# Altium footprint library XTAL_ECS120185PXTR.PcbLib: 1 footprints
Each footprint in its own frame and in the unit in brackets; x right, y up, seen from the top. Pads: shape width x height; smd on the part's side, far side on the other; paste and mask are expansions set on the pad; w line width, h text height; cw(c..) or ccw(c..) is an arc to the next point about the centre after c.
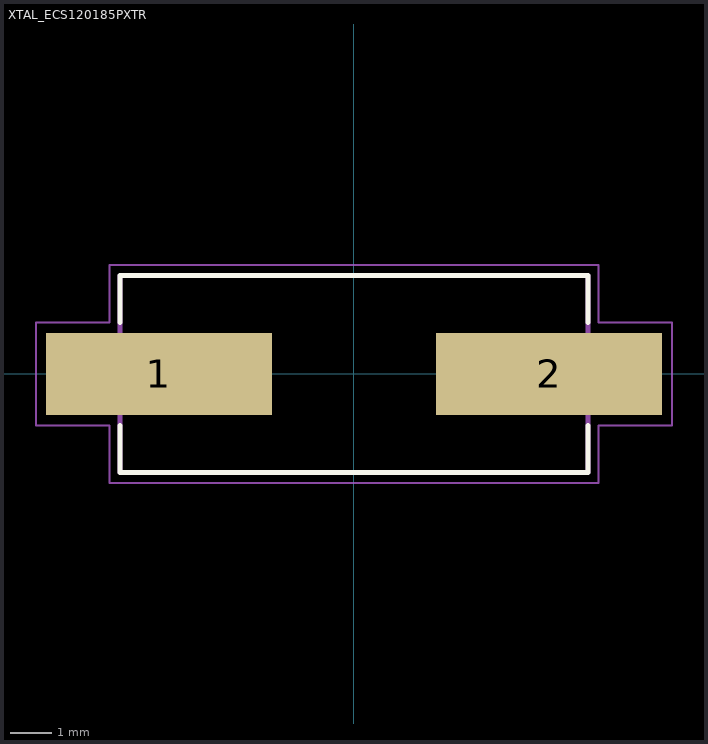
[diagram p0: the footprint, top view; thin cyan lines are the x and y axes]

## XTAL_ECS120185PXTR [mm]
pads (2):
  rect 5.5x2 smd: 1(-4.75,0) 2(4.75,0)
Top Overlay:
  lines w0.127: -5.7,-1.254 -5.7,-2.4 5.7,-2.4 5.7,-1.254 ; -5.7,1.254 -5.7,2.4 5.7,2.4 5.7,1.254
Mechanical 13:
  lines w0.127: -5.7,-2.4 -5.7,2.4 5.7,2.4 5.7,-2.4 -5.7,-2.4
Mechanical 15:
  lines w0.05: -7.75,-1.25 -5.95,-1.25 -5.95,-2.65 5.95,-2.65 5.95,-1.25 7.75,-1.25 7.75,1.25 5.95,1.25 5.95,2.65 -5.95,2.65 -5.95,1.25 -7.75,1.25 -7.75,-1.25
3D body "step_temp.STEP": height 3.2, standoff 0, extent -6.6,-2.4 6.6,2.4